# EAGLE library part 6861XX188622_686124188622 (library 68611414422)
WR-FPC 1.00 mm SMT LIF Horizontal Top Contact KIND PROPERTIES Pitch 1 mm MATERIAL PROPERTIES Insulator Material LCP Contact Material Phosphor Bronze Contact Plating 2.032µm Tin over 1.27µm Nickel Contact Type Stamped Solder Tabs Brass <https://www.we-online.com/catalog/media/o162362v209%20Family_ConFPC_686118188622.jpg> Details see: https://www.we-online.com/catalog/en/em/FPC_1_00_SMT_LIF_HORIZONTAL_TOP_CONTACT_6861xx188622 Updated by Ella Wu 2020-08-26 2020(C) Wurth Elektronik
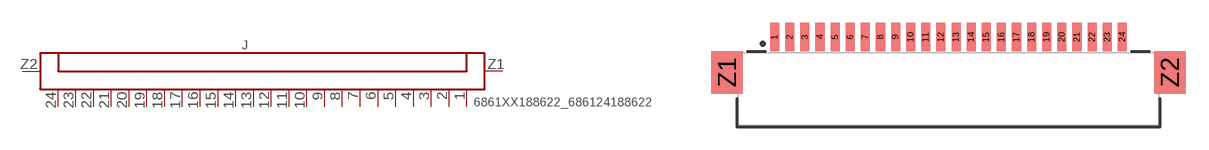
[diagram p249: symbol with the pads of 686124188622; footprint 686124188622]

Designator prefix J

## 6861XX188622_686124188622 (CONTACT-RESISTANCE: 30mOhm; DATASHEET-URL: https://www.we-online.com/catalog/datasheet/686124188622.pdf; IR: 1A; L: 27.8mm; PACKAGING: Tape and Reel; PART-NUMBER: 686124188622; PINS: 24; PITCH: 1mm; TYPE: Horizontal; VALUE: 686124188622; WORKING-VOLTAGE: 125V(AC))  [686124188622]
1  1  pas
2  2  pas
3  3  pas
4  4  pas
5  5  pas
6  6  pas
7  7  pas
8  8  pas
9  9  pas
10  10  pas
11  11  pas
12  12  pas
13  13  pas
14  14  pas
15  15  pas
16  16  pas
17  17  pas
18  18  pas
19  19  pas
20  20  pas
21  21  pas
22  22  pas
23  23  pas
24  24  pas
Z1  Z1  pas
Z2  Z2  pas

## Footprint 686124188622 (pad centres in mm)
WR-FPC 1.00 mm SMT LIF Horizontal Top Contact,24 Pins
smd 0.6 x 1.9: 1 -11.5,2.95; 2 -10.5,2.95; 3 -9.5,2.95; 4 -8.5,2.95; 5 -7.5,2.95; 6 -6.5,2.95; 7 -5.5,2.95; 8 -4.5,2.95; 9 -3.5,2.95; 10 -2.5,2.95; 11 -1.5,2.95; 12 -0.5,2.95; 13 0.5,2.95; 14 1.5,2.95; 15 2.5,2.95; 16 3.5,2.95; 17 4.5,2.95; 18 5.5,2.95; 19 6.5,2.95; 20 7.5,2.95; 21 8.5,2.95; 22 9.5,2.95; 23 10.5,2.95; 24 11.5,2.95
smd 2.1 x 2.8: Z1 -14.65,0.6; Z2 14.65,0.6